# Altium footprint library PWRCONV.PcbLib: 23 footprints (part 1 of 2)
Each footprint in its own frame and in the unit in brackets; x right, y up, seen from the top. Pads: shape width x height; smd on the part's side, far side on the other; paste and mask are expansions set on the pad; w line width, h text height; cw(c..) or ccw(c..) is an arc to the next point about the centre after c.
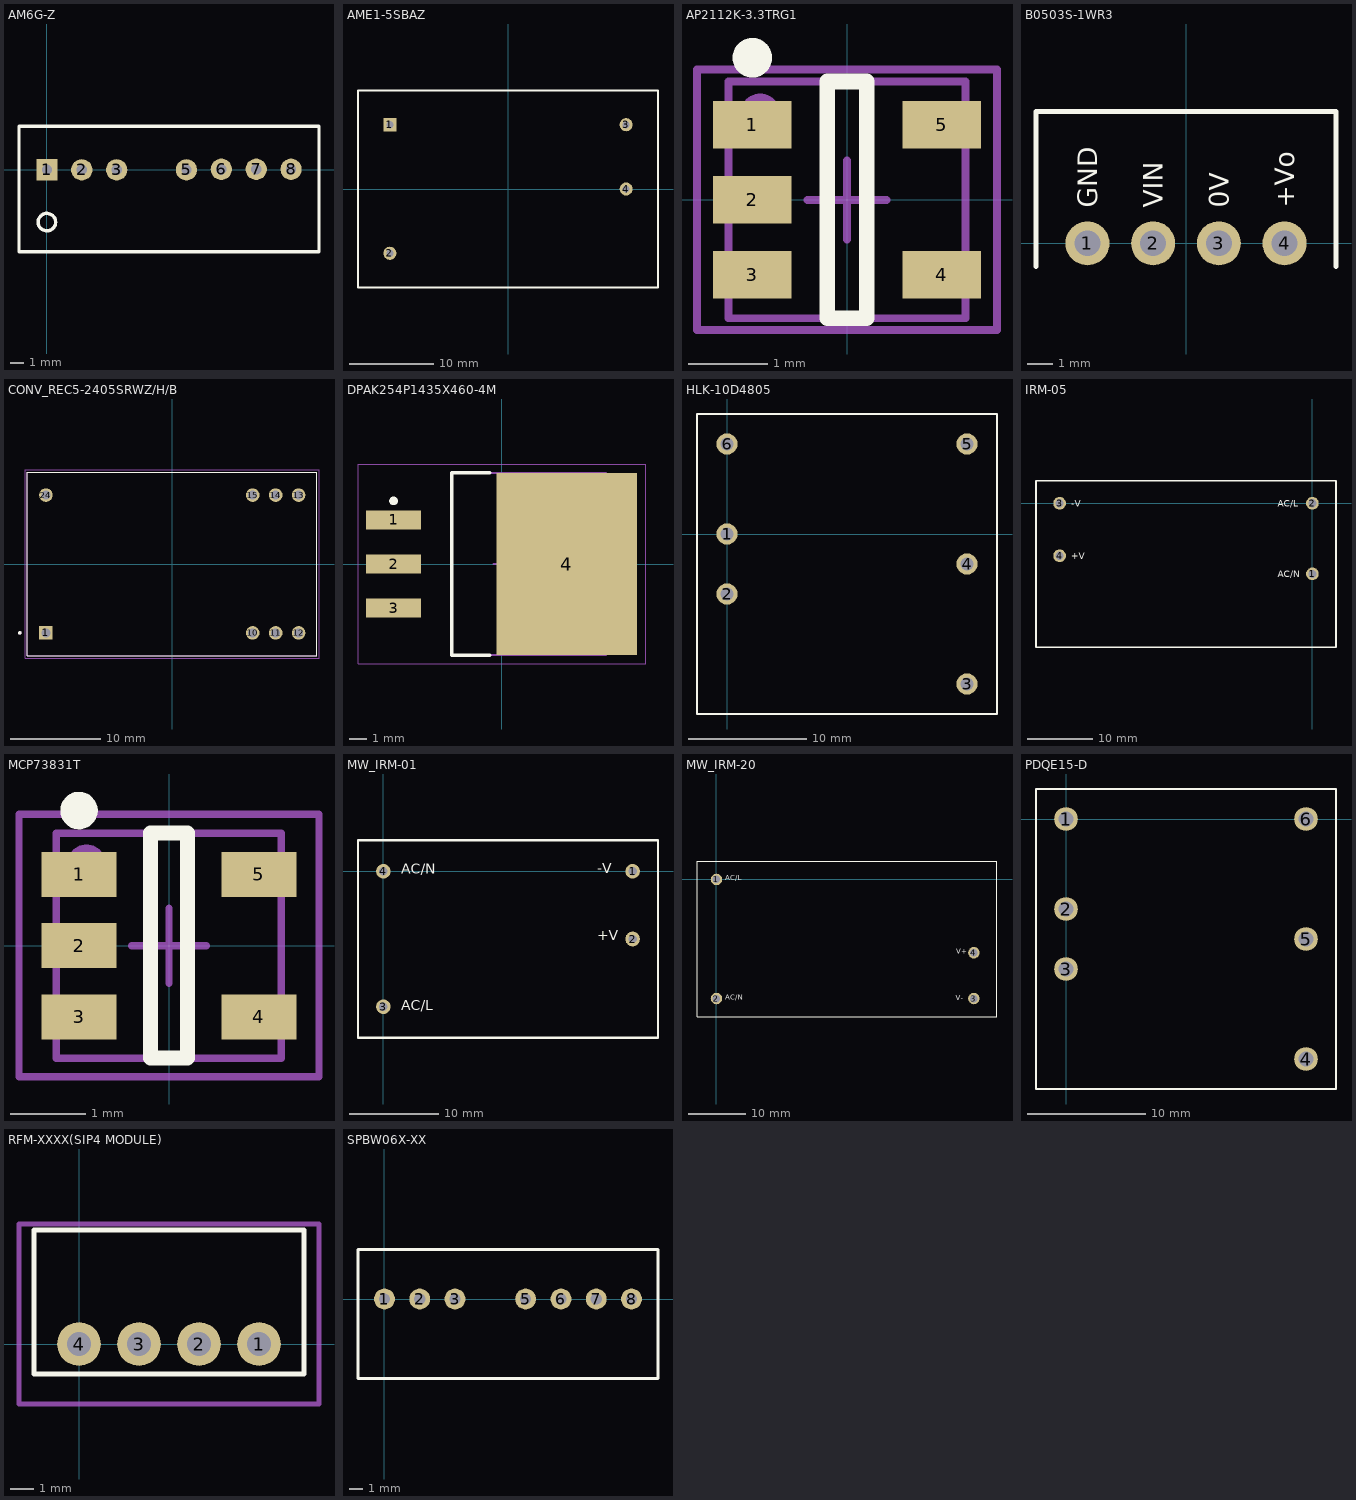
[diagram p0: the footprints below, top view; thin cyan lines are the x and y axes]

## 3XAA_HOLDER [mm]
3D body "3AA ASSY.stp": height -157.67, standoff -173.75, extent 0,0 62.2,47.026

## AM6G-Z [mm]
pads (7):
  rect 1.55x1.55 hole 0.75: 1(0,0)
  round 1.55 hole 0.75: 2(2.54,0) 3(5.08,0) 5(10.16,0) 6(12.7,0.04) 7(15.24,0.04) 8(17.78,0.04)
Top Overlay:
  circle w0.254: c0,-3.81 r0.635
  lines w0.254: 19.812,-3.175 19.812,0 ; -2.032,-5.969 19.812,-5.969 19.812,3.175 -2.032,3.175 -2.032,-5.969
3D body: height 10.67, standoff 0, extent -2.032,-5.969 19.812,3.175

## AME1-5SBAZ [mm]
pads (4):
  rect 1.55x1.55 hole 0.85: 1(-14,7.62)
  round 1.55 hole 0.85: 2(-14,-7.62) 3(14,7.62) 4(14,0)
Top Overlay:
  lines w0.2: -17.78,-11.684 17.78,-11.684 17.78,11.684 -2.159,11.684 -17.78,11.684 -17.78,-11.684
3D body: height 19.32, standoff 0, extent -17.78,-11.684 17.78,11.684

## AP2112K-3.3TRG1 [mm] "SOT-25"
pads (6):
  rect 1x0.6 smd: 1(-1.2,0.95) 2(-1.2,0) 3(-1.2,-0.95) 4(1.2,-0.95) 5(1.2,0.95)
  round 0.5 on Mech1: ""(-1.1,1.1)
Top Overlay:
  circle w0.25: c-1.2,1.8 r0.125
  lines w0.2: -0.25,-1.5 -0.25,1.5 0.25,1.5 0.25,-1.5 -0.25,-1.5
TopAssy:
  lines w0.1: -1.5,-1.5 1.5,-1.5 1.5,1.5 -1.5,1.5 -1.5,-1.5
Border:
  lines w0.1: -0.5,0 0.5,0 ; 0,-0.5 0,0.5 ; -1.9,-1.65 1.9,-1.65 1.9,1.65 -1.9,1.65 -1.9,-1.65
3D body "SOT23-5-1.step": height 1.3, standoff 0, extent -1.5,-1.5 1.5,1.5

## B0503S-1WR3 [mm] "4-SIP Module 11.6mm x 6.0mm x 10.2mm"
height 10
pads (4):
  round 1.7 hole 1 unplated: 1(-3.81,0) 2(-1.27,0) 3(1.27,0) 4(3.81,0)
Top Overlay:
  lines w0.2: -5.8,-0.9 -5.8,5.1 5.8,5.1 5.8,-0.9
  text "+Vo" at 4.185,1.37 h0.75
  text "0V" at 1.645,1.37 h0.75
  text "VIN" at -0.895,1.37 h0.75
  text "GND" at -3.435,1.37 h0.75
3D body: height 11, standoff 0, extent -5.8,-0.9 5.8,5.1

## CONV_REC5-2405SRWZ/H/B [mm]
pads (8):
  rect 1.508x1.508 hole 1: 1(-13.94,-7.62)
  round 1.508 hole 1: 10(8.92,-7.62) 11(11.46,-7.62) 12(14,-7.62) 13(14,7.62) 14(11.46,7.62) 15(8.92,7.62) 24(-13.94,7.62)
Top Overlay:
  circle w0.2: c-16.815,-7.62 r0.1
  lines w0.127: -16,-10.15 16,-10.15 16,10.15 -16,10.15 -16,-10.15
Body:
  circle w0.2: c-16.815,-7.62 r0.1
  lines w0.127: -16,-10.15 16,-10.15 16,10.15 -16,10.15 -16,-10.15
Border:
  lines w0.05: -16.25,-10.4 16.25,-10.4 16.25,10.4 -16.25,10.4 -16.25,-10.4
3D body "REC5-2405SRWZ_H_B.stp": height 10.21, standoff -3.8, extent -15.9,-10.15 15.9,10.15

## DPAK254P1435X460-4M [mm] "D2-PAK, 4-Pads, Body 7,55x8,61mm (max), IPC Low Density"
height 4.6
pads (4):
  rect 3.15x1.1 smd: 1(-6.25,2.54) 2(-6.25,0) 3(-6.25,-2.54)
  rect 8.1x10.5 smd: 4(3.75,0)
Top Overlay:
  circle w0.25: c-6.25,3.64 r0.125
  lines w0.2: -0.7,-5.25 -2.9,-5.25 -2.9,5.25 -0.7,5.25
Body:
  lines w0.1: -2.9,-5.25 6,-5.25 6,5.25 -2.9,5.25 -2.9,-5.25
Border:
  lines w0.05: -8.3,-5.75 8.3,-5.75 8.3,5.75 -8.3,5.75 -8.3,-5.75
  lines w0.1: -0.5,0 0.5,0 ; 0,-0.5 0,0.5
3D body: height 4.6, standoff 0, extent -2.9,-5.25 6,5.25

## HLK-10D4805 [mm] "Width 25.4 mm, Lenght 25.4 mm, Height 11 mm"
height 11
pads (6):
  round 1.8 hole 1.1: 1(0,0) 2(0,-5.08) 3(20.32,-12.7) 4(20.32,-2.54) 5(20.32,7.62) 6(0,7.62)
Top Overlay:
  lines w0.2: -2.54,-15.24 -2.54,10.16 22.86,10.16 22.86,-15.24 -2.54,-15.24
3D body: height 11, standoff 0, extent -2.54,-15.24 22.86,10.16

## IRM-05 [mm]
height 21.5
pads (4):
  round 1.94 hole 1.24: 1(0,-10.75) 2(0,0) 3(-38.5,0) 4(-38.5,-8)
Top Overlay:
  lines w0.254: -42.1,-21.95 -42.1,3.45 3.6,3.45 3.6,-18.5 3.6,-21.95 -42.1,-21.95
  text "+V" at -36.746,-8.5 h1
  text "-V" at -36.746,-0.5 h1
  text "AC/N" at -5.246,-11.3 h1
  text "AC/L" at -5.246,-0.5 h1
3D body "User Library-IRM-10-12.STEP": height 22.05, standoff -3.5, extent -42.099,-22 3.6,3.4

## MCP73831T [mm] "Charger IC Lithium Ion/Polymer"
height 1.45
pads (6):
  rect 1x0.6 smd: 1(-1.2,0.95) 2(-1.2,0) 3(-1.2,-0.95) 4(1.2,-0.95) 5(1.2,0.95)
  round 0.5 on Mech1: ""(-1.1,1.1)
Top Overlay:
  circle w0.25: c-1.2,1.8 r0.125
  lines w0.2: -0.25,-1.5 -0.25,1.5 0.25,1.5 0.25,-1.5 -0.25,-1.5
TopAssy:
  lines w0.1: -1.5,-1.5 1.5,-1.5 1.5,1.5 -1.5,1.5 -1.5,-1.5
Border:
  lines w0.1: -0.5,0 0.5,0 ; 0,-0.5 0,0.5 ; -2,-1.75 2,-1.75 2,1.75 -2,1.75 -2,-1.75
3D body "SOT23-5-1.step": height 1.3, standoff 0, extent -1.5,-1.5 1.5,1.5

## MW_IRM-01 [mm]
height 15
pads (4):
  round 1.65 hole 0.95: 1(28,0) 2(28,-7.6) 3(0,-15.2) 4(0,0)
Top Overlay:
  lines w0.254: -2.85,-18.7 -2.85,3.5 30.85,3.5 30.85,-4.95 30.85,-18.7 29.925,-18.7 -2.85,-18.7
  text "+V" at 24,-8.125 h2
  text "-V" at 24,-0.625 h2
  text "AC/N" at 2,-0.687 h2
  text "AC/L" at 2,-15.987 h2
3D body: height 15, standoff 0, extent -2.8,-18.7 30.9,3.5

## MW_IRM-20 [mm]
pads (4):
  round 2 hole 1.3: 1(0,0) 2(0,-20.8) 3(44.958,-20.8) 4(44.958,-12.8)
Top Overlay:
  lines w0.2: -3.4,-24 -3.4,0 -3.4,3.2 49,3.2 49,-24 -3.4,-24
  text "V+" at 41.91,-13.335 h1.52
  text "V-" at 41.783,-21.463 h1.52
  text "AC/N" at 1.524,-21.336 h1.52
  text "AC/L" at 1.524,-0.508 h1.52
3D body: height 24, standoff 0, extent -3.4,-24 49,3.2

## PCBComponent_1 [mm]

## PDQE15-D [mm] "CUI INC PDQE15-D DC-DC CONVERTER"
height 11.7
pads (6):
  round 2 hole 1.25: 1(0,0) 2(0,-7.62) 3(0,-12.7) 4(20.32,-20.32) 5(20.32,-10.16) 6(20.32,0)
Top Overlay:
  lines w0.2: -2.54,-22.86 22.86,-22.86 22.86,2.54 -2.54,2.54 -2.54,-22.86
3D body: height 11.7, standoff 0, extent -2.54,-22.86 22.86,2.54

## RFM-XXXX(SIP4 MODULE) [mm] "SIP4"
pads (4):
  round 1.85 hole 1: 1(7.62,0) 2(5.08,0) 3(2.54,0) 4(0,0)
Top Overlay:
  lines w0.2: -1.905,-1.27 9.525,-1.27 9.525,4.826 -1.905,4.826 -1.905,0 -1.905,-1.27
Border:
  lines w0.2: -2.54,-2.54 -2.54,5.08 10.16,5.08 10.16,-2.54 -2.54,-2.54
3D body: height 10, standoff 0, extent -1.905,-1.27 9.525,4.826

## SPBW06X-XX [mm] "SIP Package 21.8x9.2mm Height 11.2mm"
height 11.2
pads (7):
  round 1.5 hole 0.8: 1(0,0) 2(2.54,0) 3(5.08,0) 5(10.16,0) 6(12.7,0) 7(15.24,0) 8(17.78,0)
Top Overlay:
  lines w0.2: -1.905,-5.715 19.685,-5.715 19.685,-2.54 19.685,3.556 -1.905,3.556 -1.905,-5.715
Bottom Overlay:
  text "-Vout" at 15.615,-1.096 h0.75
  text "+Vout" at 13.075,-1.116 h0.75
  text "+Vin" at 2.915,-1.721 h0.75
  text "-Vin" at 0.375,-1.721 h0.75
3D body: height 10.2, standoff 0, extent -1.905,-5.715 19.685,3.556